# Altium footprint library PCB Footprints.PcbLib: 316 footprints (part 21 of 21)
Each footprint in its own frame and in the unit in brackets; x right, y up, seen from the top. Pads: shape width x height; smd on the part's side, far side on the other; paste and mask are expansions set on the pad; w line width, h text height; cw(c..) or ccw(c..) is an arc to the next point about the centre after c.
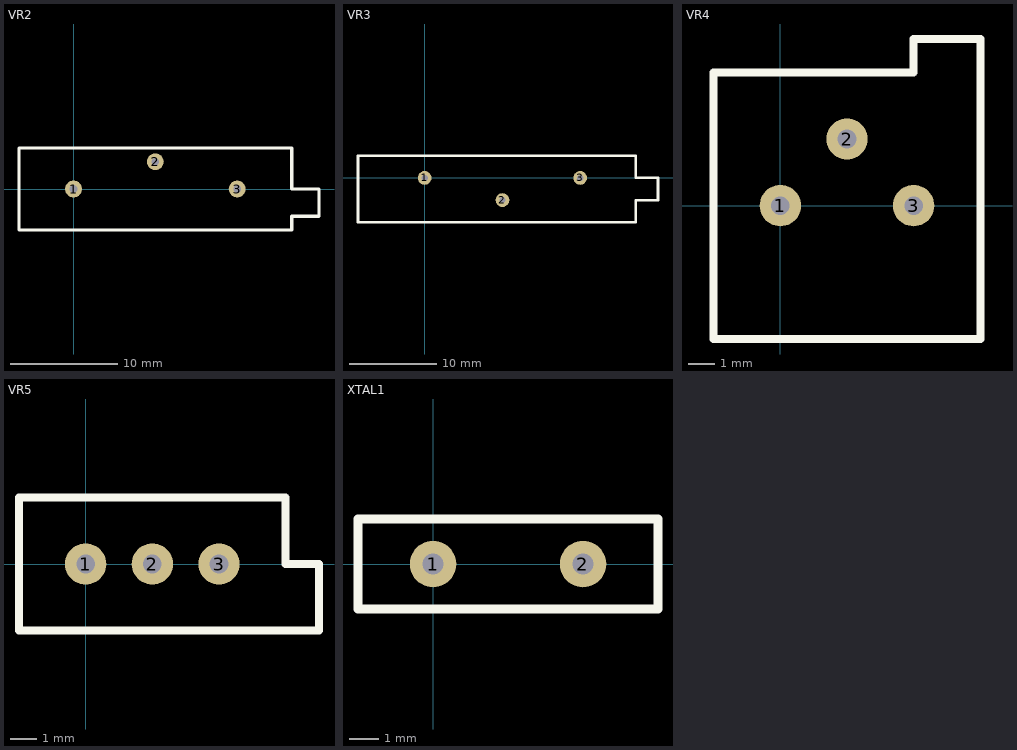
[diagram p20: the footprints below, top view; thin cyan lines are the x and y axes]

## VR2 [mil]
pads (3):
  round 62 hole 28: 1(0,0) 2(300,100) 3(600,0)
TopOverlay:
  lines w12: -200,-150 800,-150 800,-100 900,-100 900,0 800,0 800,150 -200,150 -200,-150

## VR3 [mil]
pads (3):
  round 62 hole 28: 1(0,0) 2(350,-100) 3(700,0)
TopOverlay:
  lines w12: -300,-200 -300,100 950,100 950,0 1050,0 1050,-100 950,-100 950,-200 -300,-200

## VR4 [mil]
pads (3):
  round 62 hole 28: 1(0,0) 2(100,100) 3(200,0)
TopOverlay:
  lines w12: -100,-200 300,-200 300,250 200,250 200,200 -100,200 -100,-200

## VR5 [mil]
pads (3):
  round 62 hole 28: 1(0,0) 2(100,0) 3(200,0)
TopOverlay:
  lines w12: -100,-100 350,-100 350,0 300,0 300,100 -100,100 -100,-100

## XTAL1 [mil]
pads (2):
  round 62 hole 28: 1(0,0) 2(200,0)
TopOverlay:
  lines w12: -100,-60 300,-60 300,60 -100,60 -100,-60